# Altium schematic symbol library Sensors.SchLib: 5 symbols
Pins are listed as number, name and electrical type; pins without a type are passive.

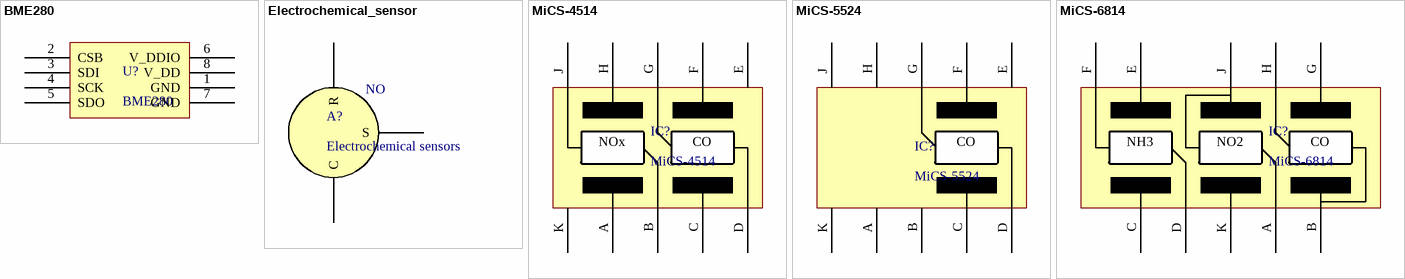
[diagram p0: symbols BME280 to MiCS-6814]

## BME280
designator U?
Combined humidity and pressure sensor; Supplier 1: Mouser; Supplier Part Number 1: 262-BME280
footprint BME280
pins: 1 GND, 2 CSB, 3 SDI, 4 SCK, 5 SDO, 6 V_DDIO, 7 GND, 8 V_DD

## Electrochemical_sensor
designator A?, comment Electrochemical sensors  Gas_type: NO
Max_sensetivity: 250ppm
footprint Electrochemical_20mm
pins: C, R, S

## MiCS-4514
designator IC?
footprint MiCS
pins: A, B, C, D, E, F, G, H, J, K
text: NOx; CO

## MiCS-5524
designator IC?
footprint MiCS
pins: A, B, C, D, E, F, G, H, J, K
text: CO

## MiCS-6814
designator IC?
footprint MiCS
pins: A, B, C, D, E, F, G, H, J, K
text: NH3; NO2; CO